# EAGLE library part 24LC32A (library 24lc32a)
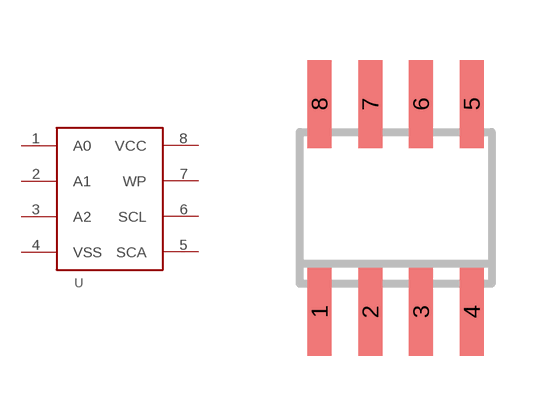
[diagram p0: symbol with the pads of SO08; footprint SO08]

Designator prefix -

## 24LC32A  [SO08]
1  A0
2  A1
3  A2
4  VSS
5  SCA
6  SCL
7  WP
8  VCC

## Footprint SO08 (pad centres in mm)
SMALL OUTLINE INTEGRATED CIRCUIT body 3.9 mm/JEDEC MS-012AA
smd 0.6 x 2.2: 1 -1.905,-2.6; 2 -0.635,-2.6; 3 0.635,-2.6; 4 1.905,-2.6; 5 1.905,2.6; 6 0.635,2.6; 7 -0.635,2.6; 8 -1.905,2.6